# EAGLE library part FXMA108 (library Level Shift)
FXMA108 level shifter.
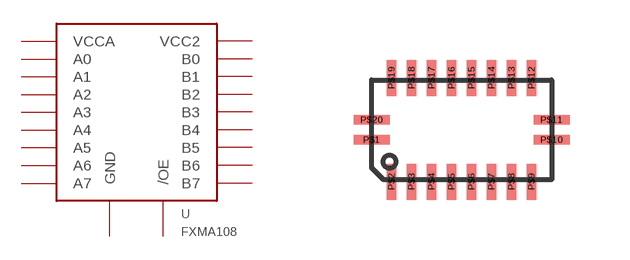
[diagram p0: symbol with the pads of FXMA108; footprint FXMA108]

Designator prefix U

## FXMA108  [FXMA108]
P$1  VCCA
P$2  A0
P$3  A1
P$4  A2
P$5  A3
P$6  A4
P$7  A5
P$8  A6
P$9  A7
P$10  GND
P$11  /OE
P$12  B0
P$13  B1
P$14  B2
P$15  B3
P$16  B4
P$17  B5
P$18  B6
P$19  B7
P$20  VCC2

## Footprint FXMA108 (pad centres in mm)
FXMA108
smd 0.9 x 0.24: P$1 -2.25,-0.25; P$10 2.25,-0.25; P$11 2.25,0.25; P$20 -2.25,0.25
smd 0.24 x 0.9: P$2 -1.75,-1.3; P$3 -1.25,-1.3; P$4 -0.75,-1.3; P$5 -0.25,-1.3; P$6 0.25,-1.3; P$7 0.75,-1.3; P$8 1.25,-1.3; P$9 1.75,-1.3; P$12 1.75,1.3; P$13 1.25,1.3; P$14 0.75,1.3; P$15 0.25,1.3; P$16 -0.25,1.3; P$17 -0.75,1.3; P$18 -1.25,1.3; P$19 -1.75,1.3